# Altium footprint library balenaFinLib.PcbLib: 75 footprints (part 2 of 5)
Each footprint in its own frame and in the unit in brackets; x right, y up, seen from the top. Pads: shape width x height; smd on the part's side, far side on the other; paste and mask are expansions set on the pad; w line width, h text height; cw(c..) or ccw(c..) is an arc to the next point about the centre after c.
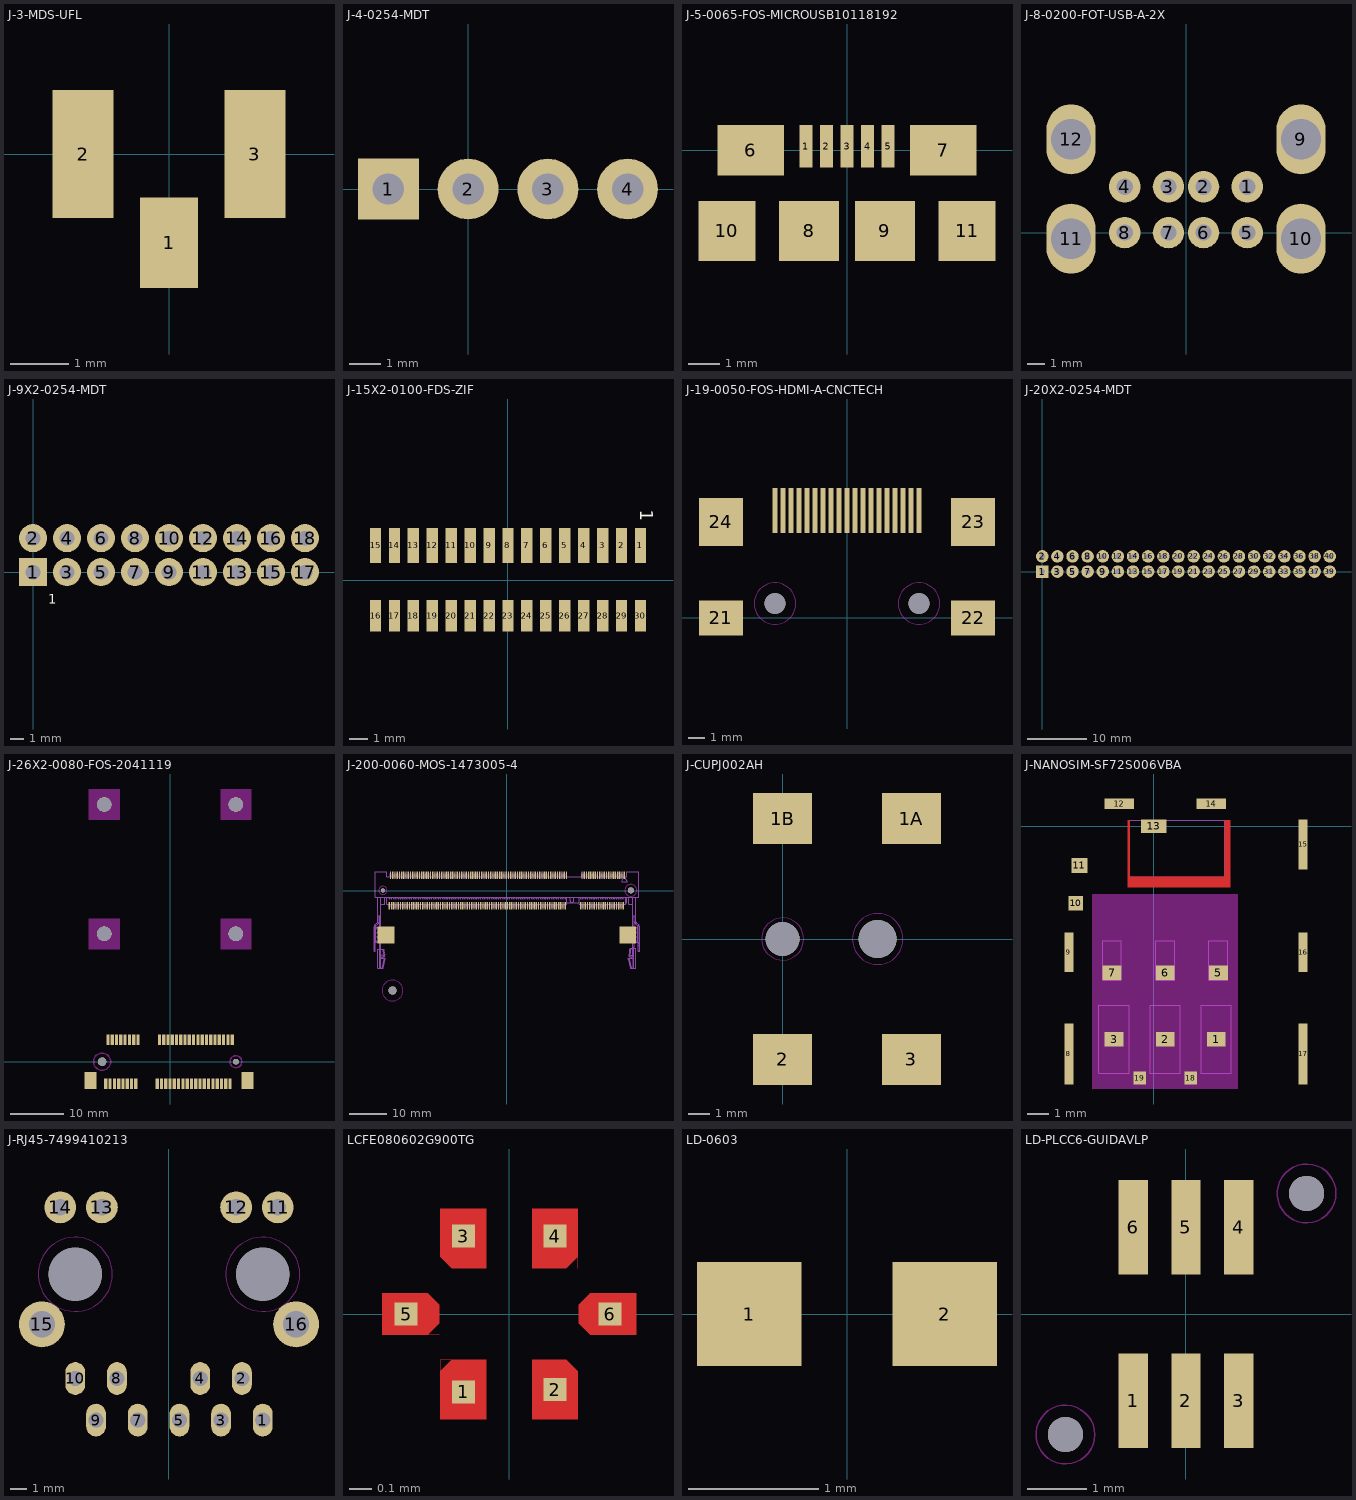
[diagram p1: the footprints below, top view; thin cyan lines are the x and y axes]

## J-3-MDS-UFL [mm]
pads (3):
  rect 1x1.55 smd: 1(0,-1.525)
  rect 1.05x2.2 smd: 2(-1.475,0) 3(1.475,0)
Mechanical 46:
  text "1" at 0.08,-1.525 h0.2
  text "2" at -1.395,0 h0.2
  text "3" at 1.555,0 h0.2
3D body: height 3.81, standoff 0, extent -2.2,-2.25 2.2,1.75

## J-4-0254-MDT [mm]
pads (4):
  rect 1.94x1.94 hole 1: 1(-2.54,0)
  round 1.94 hole 1: 2(0,0) 3(2.54,0) 4(5.08,0)
Mechanical 11:
  text "1" at -3.38,-0.38 h0.3
Mechanical 46:
  text "3" at 2.648,0.042 h0.2
  text "2" at 0.107,0.059 h0.2
  text "1" at -2.435,0.083 h0.2
  text "4" at 5.187,0.059 h0.2
3D body: height 3.81, standoff 0, extent -4.01,-1.47 6.55,1.47

## J-5-0065-FOS-MICROUSB10118192 [mm]
pads (11):
  rect 0.4x1.35 smd mask+0.13: 1(-1.3,0.125) 2(-0.65,0.125) 3(0,0.125) 4(0.65,0.125) 5(1.3,0.125)
  rect 2.1x1.6 smd: 6(-3.05,0) 7(3.05,0)
  rect 1.9x1.9 smd: 8(-1.2,-2.55) 9(1.2,-2.55)
  rect 1.8x1.9 smd: 10(-3.8,-2.55) 11(3.8,-2.55)
Mechanical 11:
  text "EDGE" at -8.7,-3.8 h0.3
  text "EDGE" at 4.9,-3.8 h0.3
Mechanical 46:
  text "5" at 1.38,0.075 h0.2
  text "3" at 0.08,0.075 h0.2
  text "2" at -0.57,0.075 h0.2
  text "1" at -1.22,0.075 h0.2
  text "11" at 3.96,-2.65 h0.2
  text "10" at -3.64,-2.65 h0.2
  text "9" at 1.28,-2.65 h0.2
  text "8" at -1.12,-2.65 h0.2
  text "7" at 3.13,-0.125 h0.2
  text "6" at -2.97,-0.075 h0.2
  text "4" at 0.73,0.075 h0.2
3D body: height 3.81, standoff 0, extent -4.9,-4.2 4.9,1.025

## J-8-0200-FOT-USB-A-2X [mm]
pads (12):
  round 1.8 hole 0.92: 1(3.5,2.62) 2(1,2.62) 3(-1,2.62) 4(-3.5,2.62) 5(3.5,0) 6(1,0) 7(-1,0) 8(-3.5,0)
  oval 2.8x4 hole 2.3: 9(6.57,5.33) 10(6.57,-0.35) 11(-6.57,-0.35) 12(-6.57,5.33)
Mechanical 46:
  text "10" at 6.57,-0.19 h0.2
  text "9" at 6.57,5.41 h0.2
  text "12" at -6.57,5.49 h0.2
  text "11" at -6.57,-0.19 h0.2
  text "3" at -1,2.7 h0.2
  text "2" at 1,2.7 h0.2
  text "1" at 3.5,2.7 h0.2
  text "5" at 3.5,0.08 h0.2
  text "7" at -1,0.08 h0.2
  text "6" at 1,0.08 h0.2
  text "4" at -3.5,2.7 h0.2
  text "8" at -3.5,0.08 h0.2
3D body: height 3.81, standoff 0, extent -8.35,-2.17 8.35,15.83

## J-9X2-0254-MDT [mm]
pads (18):
  rect 2.1x2.1 hole 1.1: 1(0,0)
  round 2.1 hole 1.1: 2(0,2.54) 3(2.54,0) 4(2.54,2.54) 5(5.08,0) 6(5.08,2.54) 7(7.62,0) 8(7.62,2.54) 9(10.16,0) 10(10.16,2.54) 11(12.7,0) 12(12.7,2.54) 13(15.24,0) 14(15.24,2.54) 15(17.78,0) 16(17.78,2.54) 17(20.32,0) 18(20.32,2.54)
Top Overlay:
  text "1" at 1.13,-2.37 h0.7
Mechanical 46:
  text "17" at 20.08,-0.1 h0.2
  text "2" at -0.1,2.44 h0.2
  text "4" at 2.44,2.44 h0.2
  text "6" at 5.04,2.44 h0.2
  text "8" at 7.54,2.44 h0.2
  text "10" at 9.98,2.44 h0.2
  text "1" at -0.06,-0.1 h0.2
  text "3" at 2.44,-0.1 h0.2
  text "5" at 5.04,-0.1 h0.2
  text "7" at 7.54,-0.1 h0.2
  text "9" at 10.14,-0.1 h0.2
  text "11" at 12.48,-0.1 h0.2
  text "13" at 14.98,-0.1 h0.2
  text "12" at 12.44,2.44 h0.2
  text "14" at 14.98,2.44 h0.2
  text "15" at 17.58,-0.1 h0.2
  text "16" at 17.58,2.44 h0.2
  text "18" at 20.08,2.44 h0.2
3D body: height 3.81, standoff 0, extent -1.3,-1.3 21.56,3.84

## J-15X2-0100-FDS-ZIF [mm]
pads (30):
  rect 0.6x1.85 smd: 1(7,1.85) 2(6,1.85) 3(5,1.85) 4(4,1.85) 5(3,1.85) 6(2,1.85) 7(1,1.85) 8(0,1.85) 9(-1,1.85) 10(-2,1.85) 11(-3,1.85) 12(-4,1.85) 13(-5,1.85) 14(-6,1.85) 15(-7,1.85)
  rect 0.6x1.65 smd: 16(-7,-1.875) 17(-6,-1.875) 18(-5,-1.875) 19(-4,-1.875) 20(-3,-1.875) 21(-2,-1.875) 22(-1,-1.875) 23(0,-1.875) 24(1,-1.875) 25(2,-1.875) 26(3,-1.875) 27(4,-1.875) 28(5,-1.875) 29(6,-1.875) 30(7,-1.875)
Top Overlay:
  text "1" at 6.978,3.728 h0.7
Mechanical 11:
  text "1" at 7.22,2.578 h0.3
Mechanical 46:
  text "16" at -6.928,-1.336 h0.2
  text "17" at -5.928,-1.336 h0.2
  text "18" at -4.928,-1.336 h0.2
  text "19" at -3.928,-1.336 h0.2
  text "20" at -2.928,-1.336 h0.2
  text "21" at -1.928,-1.336 h0.2
  text "22" at -0.928,-1.336 h0.2
  text "23" at 0.072,-1.336 h0.2
  text "24" at 1.072,-1.336 h0.2
  text "25" at 2.072,-1.336 h0.2
  text "26" at 3.072,-1.336 h0.2
  text "27" at 4.072,-1.336 h0.2
  text "28" at 5.072,-1.336 h0.2
  text "29" at 6.072,-1.336 h0.2
  text "30" at 7.072,-1.336 h0.2
  text "3" at 5.075,2.073 h0.2
  text "2" at 6.075,2.073 h0.2
  text "8" at 0.075,2.073 h0.2
  text "5" at 3.075,2.073 h0.2
  text "9" at -0.925,2.073 h0.2
  text "6" at 2.075,2.073 h0.2
  text "15" at -6.925,2.233 h0.2
  text "1" at 7.075,2.073 h0.2
  text "7" at 1.075,2.073 h0.2
  text "10" at -1.925,2.233 h0.2
  text "4" at 4.075,2.073 h0.2
  text "13" at -4.925,2.233 h0.2
  text "14" at -5.925,2.233 h0.2
  text "11" at -2.925,2.233 h0.2
  text "12" at -3.925,2.233 h0.2
3D body: height 3.81, standoff 0, extent -11.4,-2.7 11.4,2.775

## J-19-0050-FOS-HDMI-A-CNCTECH [mm]
pads (25):
  rect 0.33x2.82 smd: 1(4.5,6.71) 2(4,6.71) 3(3.5,6.71) 4(3,6.71) 5(2.5,6.71) 6(2,6.71) 7(1.5,6.71) 8(1,6.71) 9(0.5,6.71) 10(0,6.71) 11(-0.5,6.71) 12(-1,6.71) 13(-1.5,6.71) 14(-2,6.71) 15(-2.5,6.71) 16(-3,6.71) 17(-3.5,6.71) 18(-4,6.71) 19(-4.5,6.71)
  rect 2.75x2.2 smd: 21(-7.875,0) 22(7.875,0)
  rect 2.75x3 smd: 23(7.875,6) 24(-7.875,6)
  round 1.3 hole 1.3 unplated: ""(-4.5,0.9) ""(4.5,0.9)
Mechanical 11:
  text "EDGE" at 9.5,-4.4 h0.3
  text "EDGE" at -13.3,-4.4 h0.3
Multi-Layer keep-out:
  circle w0.025: c4.5,0.9 r1.3
  circle w0.025: c-4.5,0.9 r1.3
  circle w0.025: c4.5,0.9 r1.3
  circle w0.025: c-4.5,0.9 r1.3
Mechanical 46:
  text "23" at 7.875,6.16 h0.2
  text "22" at 7.875,0.16 h0.2
  text "24" at -7.875,6.16 h0.2
  text "21" at -7.875,0.16 h0.2
  text "18" at -4,6.87 h0.2
  text "2" at 4,6.79 h0.2
  text "11" at -0.5,6.87 h0.2
  text "8" at 1,6.79 h0.2
  text "5" at 2.5,6.79 h0.2
  text "17" at -3.5,6.87 h0.2
  text "12" at -1,6.87 h0.2
  text "10" at 0,6.87 h0.2
  text "9" at 0.5,6.79 h0.2
  text "7" at 1.5,6.79 h0.2
  text "6" at 2,6.79 h0.2
  text "4" at 3,6.79 h0.2
  text "3" at 3.5,6.79 h0.2
  text "1" at 4.5,6.79 h0.2
  text "19" at -4.5,6.87 h0.2
  text "16" at -3,6.87 h0.2
  text "15" at -2.5,6.87 h0.2
  text "13" at -1.5,6.87 h0.2
  text "14" at -2,6.87 h0.2
3D body: height 3.81, standoff 0, extent -9.5,-4.8 9.5,8.4

## J-20X2-0254-MDT [mm]
pads (40):
  rect 2.1x2.1 hole 0.9: 1(0,0)
  round 2.1 hole 0.9: 2(0,2.54) 3(2.54,0) 4(2.54,2.54) 5(5.08,0) 6(5.08,2.54) 7(7.62,0) 8(7.62,2.54) 9(10.16,0) 10(10.16,2.54) 11(12.7,0) 12(12.7,2.54) 13(15.24,0) 14(15.24,2.54) 15(17.78,0) 16(17.78,2.54) 17(20.32,0) 18(20.32,2.54) 19(22.86,0) 20(22.86,2.54) 21(25.4,0) 22(25.4,2.54) 23(27.94,0) 24(27.94,2.54) 25(30.48,0) 26(30.48,2.54) 27(33.02,0) 28(33.02,2.54) 29(35.56,0) 30(35.56,2.54) 31(38.1,0) 32(38.1,2.54) 33(40.64,0) 34(40.64,2.54) 35(43.18,0) 36(43.18,2.54) 37(45.72,0) 38(45.72,2.54) 39(48.26,0) 40(48.26,2.54)
Mechanical 46:
  text "3" at 2.76,-0.1 h0.2
  text "5" at 5.36,-0.1 h0.2
  text "39" at 48.72,-0.1 h0.2
  text "34" at 41.02,2.44 h0.2
  text "30" at 36.02,2.44 h0.2
  text "25" at 30.92,-0.1 h0.2
  text "20" at 23.32,2.44 h0.2
  text "14" at 15.62,2.44 h0.2
  text "6" at 5.36,2.44 h0.2
  text "9" at 10.46,-0.1 h0.2
  text "12" at 13.08,2.44 h0.2
  text "35" at 43.62,-0.1 h0.2
  text "38" at 46.12,2.44 h0.2
  text "40" at 48.72,2.44 h0.2
  text "17" at 20.72,-0.1 h0.2
  text "1" at 0.26,-0.1 h0.2
  text "2" at 0.22,2.44 h0.2
  text "4" at 2.76,2.44 h0.2
  text "36" at 43.62,2.44 h0.2
  text "8" at 7.86,2.44 h0.2
  text "10" at 10.62,2.44 h0.2
  text "7" at 7.86,-0.1 h0.2
  text "11" at 13.12,-0.1 h0.2
  text "13" at 15.62,-0.1 h0.2
  text "15" at 18.22,-0.1 h0.2
  text "19" at 23.32,-0.1 h0.2
  text "21" at 25.82,-0.1 h0.2
  text "23" at 28.32,-0.1 h0.2
  text "29" at 36.02,-0.1 h0.2
  text "31" at 38.52,-0.1 h0.2
  text "33" at 41.02,-0.1 h0.2
  text "37" at 46.12,-0.1 h0.2
  text "16" at 18.22,2.44 h0.2
  text "18" at 20.72,2.44 h0.2
  text "22" at 25.78,2.44 h0.2
  text "24" at 28.32,2.44 h0.2
  text "26" at 30.92,2.44 h0.2
  text "32" at 38.48,2.44 h0.2
  text "28" at 33.42,2.44 h0.2
  text "27" at 33.42,-0.1 h0.2
3D body: height 3.81, standoff 0, extent -1.3,-1.3 49.5,3.84

## J-26X2-0080-FOS-2041119 [mm]
pads (60):
  rect 0.6x2 smd: 1(-12,-4.1) 2(-11.6,4.1) 3(-11.2,-4.1) 4(-10.8,4.1) 5(-10.4,-4.1) 6(-10,4.1) 7(-9.6,-4.1) 8(-9.2,4.1) 9(-8.8,-4.1) 10(-8.4,4.1) 11(-8,-4.1) 12(-7.6,4.1) 13(-7.2,-4.1) 14(-6.8,4.1) 15(-6.4,-4.1) 16(-6,4.1) 17(-2.4,-4.1) 18(-2,4.1) 19(-1.6,-4.1) 20(-1.2,4.1) 21(-0.8,-4.1) 22(-0.4,4.1) 23(0,-4.1) 24(0.4,4.1) 25(0.8,-4.1) 26(1.2,4.1) 27(1.6,-4.1) 28(2,4.1) 29(2.4,-4.1) 30(2.8,4.1) 31(3.2,-4.1) 32(3.6,4.1) 33(4,-4.1) 34(4.4,4.1) 35(4.8,-4.1) 36(5.2,4.1) 37(5.6,-4.1) 38(6,4.1) 39(6.4,-4.1) 40(6.8,4.1) 41(7.2,-4.1) 42(7.6,4.1) 43(8,-4.1) 44(8.4,4.1) 45(8.8,-4.1) 46(9.2,4.1) 47(9.6,-4.1) 48(10,4.1) 49(10.4,-4.1) 50(10.8,4.1) 51(11.2,-4.1) 52(11.6,4.1)
  rect 2.3x3.2 smd: " "(-14.85,-3.5) " "(14.45,-3.5)
  round 1.6 hole 1.6 unplated: ""(-12.7,0)
  round 2.7 hole 2.7 unplated mask+0: ""(-12.3,23.9) ""(-12.3,48.05) ""(12.3,23.9) ""(12.3,48.05)
  round 1.1 hole 1.1 unplated: ""(12.3,0)
Keep-Out Layer:
  circle w0.254: c12.3,0 r1.1
  circle w0.254: c-12.7,0 r1.6
  rectangle: 9.4,21 15.2,26.8
  rectangle: -15.2,21 -9.4,26.8
  rectangle: 9.4,45.15 15.2,50.95
  rectangle: -15.2,45.15 -9.4,50.95
Mechanical 12:
  text "1" at -12.45,-4.97 h0.3
Mechanical 46:
  text "44" at 8.4,4.26 h0.2
  text "46" at 9.2,4.26 h0.2
  text "42" at 7.6,4.26 h0.2
  text "20" at -1.2,4.26 h0.2
  text "14" at -6.8,4.26 h0.2
  text "16" at -6,4.26 h0.2
  text "28" at 2,4.26 h0.2
  text "6" at -10,4.18 h0.2
  text "48" at 10,4.26 h0.2
  text "36" at 5.2,4.26 h0.2
  text "38" at 6,4.26 h0.2
  text "1" at -12,-4.02 h0.2
  text "33" at 4,-3.94 h0.2
  text "31" at 3.2,-3.94 h0.2
  text "25" at 0.8,-3.94 h0.2
  text "23" at 0,-3.94 h0.2
  text "13" at -7.2,-3.94 h0.2
  text "11" at -8,-3.94 h0.2
  text "7" at -9.6,-4.02 h0.2
  text "22" at -0.4,4.26 h0.2
  text "32" at 3.6,4.26 h0.2
  text "30" at 2.8,4.26 h0.2
  text "8" at -9.2,4.18 h0.2
  text "10" at -8.4,4.26 h0.2
  text "12" at -7.6,4.26 h0.2
  text "17" at -2.4,-3.94 h0.2
  text "19" at -1.6,-3.94 h0.2
  text "3" at -11.2,-4.02 h0.2
  text "45" at 8.8,-3.94 h0.2
  text "47" at 9.6,-3.94 h0.2
  text "49" at 10.4,-3.94 h0.2
  text "5" at -10.4,-4.02 h0.2
  text "51" at 11.2,-3.94 h0.2
  text "35" at 4.8,-3.94 h0.2
  text "37" at 5.6,-3.94 h0.2
  text "43" at 8,-3.94 h0.2
  text "4" at -10.8,4.18 h0.2
  text "15" at -6.4,-3.94 h0.2
  text "26" at 1.2,4.26 h0.2
  text "27" at 1.6,-3.94 h0.2
  text "34" at 4.4,4.26 h0.2
  text "40" at 6.8,4.26 h0.2
  text "29" at 2.4,-3.94 h0.2
  text "21" at -0.8,-3.94 h0.2
  text "18" at -2,4.26 h0.2
  text "50" at 10.8,4.26 h0.2
  text "9" at -8.8,-4.02 h0.2
  text "52" at 11.6,4.26 h0.2
  text "24" at 0.4,4.26 h0.2
  text "41" at 7.2,-3.94 h0.2
  text "2" at -11.6,4.18 h0.2
  text "39" at 6.4,-3.94 h0.2
3D body: height 3.81, standoff 0, extent -16.2,-5.3 15.8,51.2

## J-200-0060-MOS-1473005-4 [mm]
pads (205):
  rect 0.35x2 smd mask+0.15: 1(31.65,4.2) 2(31.35,-4) 3(31.05,4.2) 4(30.75,-4) 5(30.45,4.2) 6(30.15,-4) 7(29.85,4.2) 8(29.55,-4) 9(29.25,4.2) 10(28.95,-4) 11(28.65,4.2) 12(28.35,-4) 13(28.05,4.2) 14(27.75,-4) 15(27.45,4.2) 16(27.15,-4) 17(26.85,4.2) 18(26.55,-4) 19(26.25,4.2) 20(25.95,-4) 21(25.65,4.2) 22(25.35,-4) 23(25.05,4.2) 24(24.75,-4) 25(24.45,4.2) 26(24.15,-4) 27(23.85,4.2) 28(23.55,-4) 29(23.25,4.2) 30(22.95,-4) 31(22.65,4.2) 32(22.35,-4) 33(22.05,4.2) 34(21.75,-4) 35(21.45,4.2) 36(21.15,-4) 37(20.85,4.2) 38(20.55,-4) 39(20.25,4.2) 40(19.95,-4) 41(16.05,4.2) 42(15.75,-4) 43(15.45,4.2) 44(15.15,-4) 45(14.85,4.2) 46(14.55,-4) 47(14.25,4.2) 48(13.95,-4) 49(13.65,4.2) 50(13.35,-4) 51(13.05,4.2) 52(12.75,-4) 53(12.45,4.2) 54(12.15,-4) 55(11.85,4.2) 56(11.55,-4) 57(11.25,4.2) 58(10.95,-4) 59(10.65,4.2) 60(10.35,-4) 61(10.05,4.2) 62(9.75,-4) 63(9.45,4.2) 64(9.15,-4) 65(8.85,4.2) 66(8.55,-4) 67(8.25,4.2) 68(7.95,-4) 69(7.65,4.2) 70(7.35,-4) 71(7.05,4.2) 72(6.75,-4) 73(6.45,4.2) 74(6.15,-4) 75(5.85,4.2) 76(5.55,-4) 77(5.25,4.2) 78(4.95,-4) 79(4.65,4.2) 80(4.35,-4) 81(4.05,4.2) 82(3.75,-4) 83(3.45,4.2) 84(3.15,-4) 85(2.85,4.2) 86(2.55,-4) 87(2.25,4.2) 88(1.95,-4) 89(1.65,4.2) 90(1.35,-4) 91(1.05,4.2) 92(0.75,-4) 93(0.45,4.2) 94(0.15,-4) 95(-0.15,4.2) 96(-0.45,-4) 97(-0.75,4.2) 98(-1.05,-4) 99(-1.35,4.2) 100(-1.65,-4) 101(-1.95,4.2) 102(-2.25,-4) 103(-2.55,4.2) 104(-2.85,-4) 105(-3.15,4.2) 106(-3.45,-4) 107(-3.75,4.2) 108(-4.05,-4) 109(-4.35,4.2) 110(-4.65,-4) 111(-4.95,4.2) 112(-5.25,-4) 113(-5.55,4.2) 114(-5.85,-4) 115(-6.15,4.2) 116(-6.45,-4) 117(-6.75,4.2) 118(-7.05,-4) 119(-7.35,4.2) 120(-7.65,-4) 121(-7.95,4.2) 122(-8.25,-4) 123(-8.55,4.2) 124(-8.85,-4) 125(-9.15,4.2) 126(-9.45,-4) 127(-9.75,4.2) 128(-10.05,-4) 129(-10.35,4.2) 130(-10.65,-4) 131(-10.95,4.2) 132(-11.25,-4) 133(-11.55,4.2) 134(-11.85,-4) 135(-12.15,4.2) 136(-12.45,-4) 137(-12.75,4.2) 138(-13.05,-4) 139(-13.35,4.2) 140(-13.65,-4) 141(-13.95,4.2) 142(-14.25,-4) 143(-14.55,4.2) 144(-14.85,-4) 145(-15.15,4.2) 146(-15.45,-4) 147(-15.75,4.2) 148(-16.05,-4) 149(-16.35,4.2) 150(-16.65,-4) 151(-16.95,4.2) 152(-17.25,-4) 153(-17.55,4.2) 154(-17.85,-4) 155(-18.15,4.2) 156(-18.45,-4) 157(-18.75,4.2) 158(-19.05,-4) 159(-19.35,4.2) 160(-19.65,-4) 161(-19.95,4.2) 162(-20.25,-4) 163(-20.55,4.2) 164(-20.85,-4) 165(-21.15,4.2) 166(-21.45,-4) 167(-21.75,4.2) 168(-22.05,-4) 169(-22.35,4.2) 170(-22.65,-4) 171(-22.95,4.2) 172(-23.25,-4) 173(-23.55,4.2) 174(-23.85,-4) 175(-24.15,4.2) 176(-24.45,-4) 177(-24.75,4.2) 178(-25.05,-4) 179(-25.35,4.2) 180(-25.65,-4) 181(-25.95,4.2) 182(-26.25,-4) 183(-26.55,4.2) 184(-26.85,-4) 185(-27.15,4.2) 186(-27.45,-4) 187(-27.75,4.2) 188(-28.05,-4) 189(-28.35,4.2) 190(-28.65,-4) 191(-28.95,4.2) 192(-29.25,-4) 193(-29.55,4.2) 194(-29.85,-4) 195(-30.15,4.2) 196(-30.45,-4) 197(-30.75,4.2) 198(-31.05,-4) 199(-31.35,4.2) 200(-31.65,-4)
  rect 4.5x4.6 smd mask+0.15: " "(-32.55,-11.9) " "(32.55,-11.9)
  round 1.1 hole 1.1 unplated: ""(-33.4,0.1)
  round 2.2 hole 2.2 unplated: ""(-30.8,-26.9)
  round 1.6 hole 1.6 unplated: ""(33.4,0.1)
Keep-Out Layer:
  circle w0.254: c-33.4,0.1 r1.1
  circle w0.254: c33.4,0.1 r1.6
  circle w0.254: c-30.8,-26.9 r2.8
Mechanical 12:
  drawing of 1502 lines, arcs and shapes, not listed
  text "1" at 32.12,5.81 h0.3
Mechanical 46:
  text "189" at -28.59,4.2 h0.2
  text "190" at -28.89,-4 h0.2
  text "171" at -23.19,4.2 h0.2
  text "175" at -24.39,4.2 h0.2
  text "173" at -23.79,4.2 h0.2
  text "6" at 30.07,-4 h0.2
  text "4" at 30.67,-4 h0.2
  text "42" at 15.59,-4 h0.2
  text "200" at -31.89,-4 h0.2
  text "194" at -30.09,-4 h0.2
  text "198" at -31.29,-4 h0.2
  text "192" at -29.49,-4 h0.2
  text "41" at 15.89,4.2 h0.2
  text "39" at 20.09,4.2 h0.2
  text "40" at 19.79,-4 h0.2
  text "191" at -29.19,4.2 h0.2
  text "193" at -29.79,4.2 h0.2
  text "197" at -30.99,4.2 h0.2
  text "199" at -31.59,4.2 h0.2
  text "183" at -26.79,4.2 h0.2
  text "185" at -27.39,4.2 h0.2
  text "186" at -27.69,-4 h0.2
  text "184" at -27.09,-4 h0.2
  text "9" at 29.17,4.2 h0.2
  text "11" at 28.49,4.2 h0.2
  text "131" at -11.19,4.2 h0.2
  text "129" at -10.59,4.2 h0.2
  text "125" at -9.39,4.2 h0.2
  text "123" at -8.79,4.2 h0.2
  text "119" at -7.59,4.2 h0.2
  text "117" at -6.99,4.2 h0.2
  text "113" at -5.79,4.2 h0.2
  text "111" at -5.19,4.2 h0.2
  text "170" at -22.89,-4 h0.2
  text "38" at 20.39,-4 h0.2
  text "1" at 31.57,4.2 h0.2
  text "61" at 9.89,4.2 h0.2
  text "8" at 29.47,-4 h0.2
  text "169" at -22.59,4.2 h0.2
  text "187" at -27.99,4.2 h0.2
  text "195" at -30.39,4.2 h0.2
  text "44" at 14.99,-4 h0.2
  text "68" at 7.79,-4 h0.2
  text "74" at 5.99,-4 h0.2
  text "80" at 4.19,-4 h0.2
  text "86" at 2.39,-4 h0.2
  text "92" at 0.59,-4 h0.2
  text "98" at -1.21,-4 h0.2
  text "50" at 13.19,-4 h0.2
  text "181" at -26.19,4.2 h0.2
  text "157" at -18.99,4.2 h0.2
  text "151" at -17.19,4.2 h0.2
  text "145" at -15.39,4.2 h0.2
  text "139" at -13.59,4.2 h0.2
  text "133" at -11.79,4.2 h0.2
  text "127" at -9.99,4.2 h0.2
  text "121" at -8.19,4.2 h0.2
  text "115" at -6.39,4.2 h0.2
  text "109" at -4.59,4.2 h0.2
  text "103" at -2.79,4.2 h0.2
  text "97" at -0.91,4.2 h0.2
  text "91" at 0.89,4.2 h0.2
  text "85" at 2.69,4.2 h0.2
  text "79" at 4.49,4.2 h0.2
  text "73" at 6.29,4.2 h0.2
  text "13" at 27.89,4.2 h0.2
  text "19" at 26.09,4.2 h0.2
  text "25" at 24.29,4.2 h0.2
  text "31" at 22.49,4.2 h0.2
  text "37" at 20.69,4.2 h0.2
  text "67" at 8.09,4.2 h0.2
  text "122" at -8.49,-4 h0.2
  text "164" at -21.09,-4 h0.2
  text "152" at -17.49,-4 h0.2
  text "146" at -15.69,-4 h0.2
  text "140" at -13.89,-4 h0.2
  text "134" at -12.09,-4 h0.2
  text "116" at -6.69,-4 h0.2
  text "110" at -4.89,-4 h0.2
  text "104" at -3.09,-4 h0.2
  text "163" at -20.79,4.2 h0.2
  text "32" at 22.19,-4 h0.2
  text "26" at 23.99,-4 h0.2
  text "20" at 25.79,-4 h0.2
  text "14" at 27.59,-4 h0.2
  text "196" at -30.69,-4 h0.2
  text "188" at -28.29,-4 h0.2
  text "182" at -26.49,-4 h0.2
  text "62" at 9.59,-4 h0.2
  text "56" at 11.39,-4 h0.2
  text "7" at 29.77,4.2 h0.2
  text "55" at 11.69,4.2 h0.2
  text "49" at 13.49,4.2 h0.2
  text "43" at 15.29,4.2 h0.2
  text "179" at -25.59,4.2 h0.2
  text "162" at -20.49,-4 h0.2
  text "160" at -19.89,-4 h0.2
  text "158" at -19.29,-4 h0.2
  text "156" at -18.69,-4 h0.2
  text "154" at -18.09,-4 h0.2
  text "132" at -11.49,-4 h0.2
  text "130" at -10.89,-4 h0.2
  text "128" at -10.29,-4 h0.2
  text "126" at -9.69,-4 h0.2
  text "124" at -9.09,-4 h0.2
  text "166" at -21.69,-4 h0.2
  text "10" at 28.79,-4 h0.2
  text "12" at 28.19,-4 h0.2
  text "24" at 24.59,-4 h0.2
  text "22" at 25.19,-4 h0.2
  text "18" at 26.39,-4 h0.2
  text "16" at 26.99,-4 h0.2
  text "84" at 2.99,-4 h0.2
  text "82" at 3.59,-4 h0.2
  text "147" at -15.99,4.2 h0.2
  text "149" at -16.59,4.2 h0.2
  text "153" at -17.79,4.2 h0.2
  text "155" at -18.39,4.2 h0.2
  text "159" at -19.59,4.2 h0.2
  text "161" at -20.19,4.2 h0.2
  text "90" at 1.19,-4 h0.2
  text "28" at 23.39,-4 h0.2
  text "118" at -7.29,-4 h0.2
  text "88" at 1.79,-4 h0.2
  text "30" at 22.79,-4 h0.2
  text "100" at -1.89,-4 h0.2
  text "2" at 31.27,-4 h0.2
  text "102" at -2.49,-4 h0.2
  text "94" at -0.01,-4 h0.2
  text "120" at -7.89,-4 h0.2
  text "96" at -0.61,-4 h0.2
  text "63" at 9.29,4.2 h0.2
  text "65" at 8.69,4.2 h0.2
  text "69" at 7.49,4.2 h0.2
  text "71" at 6.89,4.2 h0.2
  text "57" at 11.09,4.2 h0.2
  text "51" at 12.89,4.2 h0.2
  text "53" at 12.29,4.2 h0.2
  text "165" at -21.39,4.2 h0.2
  text "167" at -21.99,4.2 h0.2
  text "46" at 14.39,-4 h0.2
  text "48" at 13.79,-4 h0.2
  text "180" at -25.89,-4 h0.2
  text "174" at -24.09,-4 h0.2
  text "178" at -25.29,-4 h0.2
  text "172" at -23.49,-4 h0.2
  text "76" at 5.39,-4 h0.2
  text "78" at 4.79,-4 h0.2
  text "176" at -24.69,-4 h0.2
  text "15" at 27.29,4.2 h0.2
  text "59" at 10.49,4.2 h0.2
  text "89" at 1.49,4.2 h0.2
  text "168" at -22.29,-4 h0.2
  text "75" at 5.69,4.2 h0.2
  text "33" at 21.89,4.2 h0.2
  text "29" at 23.09,4.2 h0.2
  text "35" at 21.29,4.2 h0.2
  text "66" at 8.39,-4 h0.2
  text "64" at 8.99,-4 h0.2
  text "60" at 10.19,-4 h0.2
  text "58" at 10.79,-4 h0.2
  text "54" at 11.99,-4 h0.2
  text "52" at 12.59,-4 h0.2
  text "17" at 26.69,4.2 h0.2
  text "21" at 25.49,4.2 h0.2
  text "47" at 14.09,4.2 h0.2
  text "87" at 2.09,4.2 h0.2
  text "77" at 5.09,4.2 h0.2
  text "81" at 3.89,4.2 h0.2
  text "83" at 3.29,4.2 h0.2
  text "93" at 0.29,4.2 h0.2
  text "27" at 23.69,4.2 h0.2
  text "95" at -0.31,4.2 h0.2
  text "23" at 24.89,4.2 h0.2
  text "99" at -1.51,4.2 h0.2
  text "101" at -2.19,4.2 h0.2
  text "45" at 14.69,4.2 h0.2
  text "105" at -3.39,4.2 h0.2
  text "107" at -3.99,4.2 h0.2
  text "5" at 30.37,4.2 h0.2
  text "3" at 30.97,4.2 h0.2
  text "114" at -6.09,-4 h0.2
  text "106" at -3.69,-4 h0.2
  text "135" at -12.39,4.2 h0.2
  text "137" at -12.99,4.2 h0.2
  text "112" at -5.49,-4 h0.2
  text "143" at -14.79,4.2 h0.2
  text "141" at -14.19,4.2 h0.2
  text "108" at -4.29,-4 h0.2
  text "34" at 21.59,-4 h0.2
  text "36" at 20.99,-4 h0.2
  text "70" at 7.19,-4 h0.2
  text "72" at 6.59,-4 h0.2
  text "177" at -24.99,4.2 h0.2
  text "150" at -16.89,-4 h0.2
  text "148" at -16.29,-4 h0.2
  text "138" at -13.29,-4 h0.2
  text "136" at -12.69,-4 h0.2
  text "144" at -15.09,-4 h0.2
  text "142" at -14.49,-4 h0.2
3D body: height 3.81, standoff 0, extent -37.7,-32 37.7,5.4

## J-CUPJ002AH [mm]
pads (6):
  rect 2.8x2.4 smd: 1A(6.1,5.7) 1B(0,5.7) 2(0,-5.7) 3(6.1,-5.7)
  round 1.6 hole 1.6 unplated: " "(0,0)
  round 1.8 hole 1.8 unplated: " "(4.5,0)
Multi-Layer keep-out:
  circle w0.025: c0,0 r1
  circle w0.025: c4.5,0 r1.2
  circle w0.025: c4.5,0 r1.2
  circle w0.025: c0,0 r1
Mechanical 46:
  text "3" at 6.222,-5.927 h0.2
  text "2" at 0.123,-5.927 h0.2
  text "1A" at 6.334,5.288 h0.2
  text "1B" at 0.234,5.288 h0.2
3D body: height 3.81, standoff 0, extent -5,-7 9.8,7
3D body: height 3.81, standoff 0, extent -5,4.5 -1.5,7

## J-NANOSIM-SF72S006VBA [mm]
pads (18):
  rect 0.9x0.7 smd: 1(2.99,-10.175) 2(0.55,-10.175) 3(-1.89,-10.175) 5(3.09,-7.005) 6(0.55,-7.005) 7(-1.99,-7.005)
  rect 0.45x2.9 smd: 8(-4.045,-10.875) 17(7.13,-10.875)
  rect 0.45x1.9 smd: 9(-4.045,-6.025) 16(7.13,-6.025)
  rect 0.7x0.7 smd: 10(-3.72,-3.675)
  rect 0.75x0.7 smd: 11(-3.545,-1.875)
  rect 1.4x0.5 smd: 12(-1.65,1.075) 14(2.75,1.075)
  rect 1.2x0.65 smd: 13(0,0)
  rect 0.45x2.4 smd: 15(7.13,-0.875)
  rect 0.6x0.6 smd: 18(1.77,-12.025) 19(-0.67,-12.025)
Top Layer:
  region: -1.25,-2.925 -1.25,0.275 -1.15,0.275 -1.15,-2.425 3.4,-2.425 3.4,0.275 3.65,0.275 3.65,-2.925
Top Layer keep-out:
  region: -2.94,-3.27 -2.92,-3.25 4.02,-3.25 4.02,-12.55 -2.93,-12.55
Mechanical 11:
  lines w0.025: -2.615,-11.8 -1.165,-11.8 -1.165,-8.55 -2.615,-8.55 -2.615,-11.8 ; -2.44,-7.355 -1.54,-7.355 -1.54,-5.475 -2.44,-5.475 -2.44,-7.355 ; -1.15,-2.425 3.4,-2.425 3.4,0.275 -1.15,0.275 -1.15,-2.425 ; -0.175,-11.8 1.275,-11.8 1.275,-8.55 -0.175,-8.55 -0.175,-11.8 ; 0.1,-7.355 1,-7.355 1,-5.475 0.1,-5.475 0.1,-7.355 ; 2.265,-11.8 3.715,-11.8 3.715,-8.55 2.265,-8.55 2.265,-11.8 ; 2.64,-7.355 3.54,-7.355 3.54,-5.475 2.64,-5.475 2.64,-7.355
  text "EDGE" at -4.13,-12.89 h0.3
  text "EDGE" at 6.24,-12.86 h0.3
  text "Only GND Trace" at 5.187,1.232 h0.3
Mechanical 46:
  text "13" at 0,0.16 h0.2
  text "6" at 0.55,-6.925 h0.2
  text "9" at -4.045,-5.945 h0.2
  text "10" at -3.72,-3.515 h0.2
  text "18" at 1.77,-11.865 h0.2
  text "19" at -0.67,-11.865 h0.2
  text "5" at 3.09,-6.925 h0.2
  text "11" at -3.545,-1.715 h0.2
  text "17" at 7.13,-10.715 h0.2
  text "12" at -1.65,1.235 h0.2
  text "8" at -4.045,-10.795 h0.2
  text "16" at 7.13,-5.865 h0.2
  text "15" at 7.13,-0.715 h0.2
  text "14" at 2.75,1.235 h0.2
  text "1" at 2.99,-10.095 h0.2
  text "3" at -1.89,-10.095 h0.2
  text "7" at -1.99,-6.925 h0.2
  text "2" at 0.55,-10.095 h0.2
3D body: height 3.81, standoff 0, extent -4.27,-12.975 7.33,1.775

## J-RJ45-7499410213 [mm]
pads (17):
  oval 1.2x2 hole 0.9: 1(5.715,-19.78) 2(4.445,-17.24) 3(3.175,-19.78) 4(1.905,-17.24) 5(0.635,-19.78) 7(-1.905,-19.78) 8(-3.175,-17.24) 9(-4.445,-19.78) 10(-5.715,-17.24)
  round 1.94 hole 1.02: 11(6.63,-6.81) 12(4.09,-6.81) 13(-4.09,-6.81) 14(-6.63,-6.81)
  round 2.8 hole 1.6: 15(-7.745,-13.94) 16(7.745,-13.94)
  round 3.25 hole 3.25 unplated: ""(-5.715,-10.89) ""(5.715,-10.89)
Multi-Layer keep-out:
  circle w0.025: c-5.715,-10.89 r2.26
  circle w0.025: c5.715,-10.89 r2.26
  circle w0.025: c5.715,-10.89 r2.26
  circle w0.025: c-5.715,-10.89 r2.26
Mechanical 46:
  text "16" at 7.745,-13.78 h0.2
  text "15" at -7.745,-13.78 h0.2
  text "11" at 6.63,-6.65 h0.2
  text "13" at -4.09,-6.65 h0.2
  text "12" at 4.09,-6.65 h0.2
  text "14" at -6.63,-6.65 h0.2
  text "10" at -5.715,-17.08 h0.2
  text "9" at -4.445,-19.7 h0.2
  text "7" at -1.905,-19.7 h0.2
  text "8" at -3.175,-17.16 h0.2
  text "3" at 3.175,-19.7 h0.2
  text "2" at 4.445,-17.16 h0.2
  text "5" at 0.635,-19.7 h0.2
  text "4" at 1.905,-17.16 h0.2
  text "1" at 5.715,-19.7 h0.2
3D body: height 3.81, standoff 0, extent -9.15,-22.04 9.15,0.2

## LCFE080602G900TG [mm]
pads (6):
  rect 0.1x0.1 smd paste-0.1 mask-0.1: 1(-0.2,-0.34) 2(0.2,-0.33) 3(-0.2,0.34) 4(0.2,0.34) 5(-0.45,0) 6(0.44,0)
Top Layer:
  region: 0.305,0.09 0.355,0.09 0.305,0.04 0.305,-0.04 0.335,-0.07 0.355,-0.09 0.305,-0.09 0.555,-0.09 0.555,0.09
  region: 0.3,-0.25 0.3,-0.46 0.1,-0.46 0.1,-0.2 0.25,-0.2
  region: -0.1,-0.2 -0.1,-0.46 -0.3,-0.46 -0.3,-0.2 -0.3,-0.25 -0.25,-0.2 -0.3,-0.2
  region: -0.3,0.25 -0.3,0.46 -0.1,0.46 -0.1,0.2 -0.25,0.2
  region: 0.1,0.2 0.1,0.46 0.3,0.46 0.3,0.2 0.3,0.25 0.25,0.2
  region: -0.305,-0.09 -0.355,-0.09 -0.305,-0.04 -0.305,0.04 -0.335,0.07 -0.355,0.09 -0.555,0.09 -0.555,-0.09
Top Paste:
  region: 0.3,-0.25 0.3,-0.51 0.1,-0.51 0.1,-0.2 0.25,-0.2
  region: -0.1,-0.2 -0.1,-0.51 -0.3,-0.51 -0.3,-0.2 -0.3,-0.25 -0.25,-0.2
  region: 0.305,0.09 0.355,0.09 0.305,0.04 0.305,-0.04 0.335,-0.07 0.355,-0.09 0.61,-0.09 0.61,0.09
  region: -0.305,-0.09 -0.355,-0.09 -0.305,-0.04 -0.305,0.04 -0.335,0.07 -0.355,0.09 -0.61,0.09 -0.61,-0.09
  region: -0.3,0.25 -0.3,0.51 -0.1,0.51 -0.1,0.2 -0.25,0.2
  region: 0.1,0.2 0.1,0.51 0.3,0.51 0.3,0.2 0.3,0.25 0.25,0.2
Top Solder:
  region: -0.4,-0.14 -0.3,-0.04 -0.3,0.04 -0.4,0.14 -0.66,0.14 -0.66,-0.14
  region: 0.4,0.14 0.3,0.04 0.3,-0.04 0.4,-0.14 0.65,-0.14 0.65,0.14
  region: -0.35,0.3 -0.35,0.56 -0.06,0.56 -0.06,0.15 -0.2,0.15
  region: 0.35,-0.3 0.35,-0.56 0.06,-0.56 0.06,-0.15 0.2,-0.15
  region: 0.06,0.15 0.06,0.56 0.35,0.56 0.35,0.3 0.2,0.15
  region: -0.06,-0.15 -0.06,-0.56 -0.35,-0.56 -0.35,-0.3 -0.2,-0.15
Mechanical 46:
  text "2" at 0.41,-0.44 h0.2
  text "1" at -0.45,-0.45 h0.2
  text "6" at 0.527,-0.08 h0.2
  text "5" at -0.04,-0.06 h0.2
  text "4" at 0.38,0.3 h0.2
  text "3" at -0.55,0.29 h0.2
  text "6" at 0.23,-0.06 h0.2
3D body: height 0.5, standoff 0, extent -0.59,-0.47 0.31,0.23

## LD-0603 [mm]
pads (2):
  rect 0.8x0.8 smd: 1(-0.75,0) 2(0.75,0)
Mechanical 46:
  text "1" at -0.647,-0.253 h0.2
  text "2" at 0.848,-0.273 h0.2
3D body: height 3.81, standoff 0, extent -1.45,-0.7 1.45,0.7

## LD-PLCC6-GUIDAVLP [mm]
pads (8):
  rect 0.5x1.6 smd: 1(-0.9,-1.475) 2(0,-1.475) 3(0.9,-1.475) 4(0.9,1.475) 5(0,1.475) 6(-0.9,1.475)
  round 0.6 hole 0.6 unplated: ""(-2.05,-2.05) ""(2.05,2.05)
Multi-Layer keep-out:
  circle w0.025: c2.05,2.05 r0.5
  circle w0.025: c-2.05,-2.05 r0.5
Mechanical 46:
  text "1" at -0.98,-1.475 h0.2
  text "2" at -0.08,-1.475 h0.2
  text "3" at 0.82,-1.475 h0.2
  text "6" at -0.98,1.475 h0.2
  text "5" at -0.08,1.475 h0.2
  text "4" at 0.82,1.475 h0.2
3D body: height 3.81, standoff 0, extent -2.55,-2.55 2.55,2.55